# Altium schematic symbol library Female Barrel Connector.SchLib: 1 symbol
Pins are listed as number, name and electrical type; pins without a type are passive.

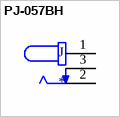
[diagram p0: symbol PJ-057BH]

## PJ-057BH
designator J
2.5 x 6.3 mm, 5.0 A, Horizontal, Through Hole, Pick-n-Place Top, Dc Power Jack Connector; MF: CUI Devices; MP: PJ-057BH; Package: None; Value: *; Price: None; SnapEDA_Link: https://www.snapeda.com/parts/PJ-057BH/CUI%20Devices/view-part/590963/?ref=snap; Availability: Unavailable
footprint CUI_PJ-057BH
pins: 1, 2, 3